# EAGLE library part PTA-08 (library con-phoenix-350)
PTA 1,5/ XX-3,5
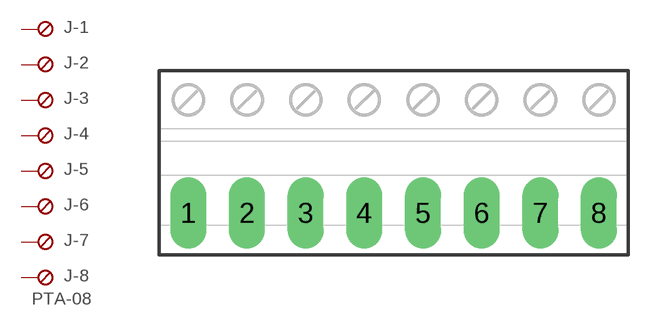
[diagram p7: symbol with the pads of PTA-08; footprint PTA-08]

Designator prefix J; gates -1=SKB -2=SKB -3=SKB -4=SKB -5=SKB -6=SKB -7=SKB -8=SKBU+V

## PTA-08  [PTA-08]
1  -1:S  pas
2  -2:S  pas
3  -3:S  pas
4  -4:S  pas
5  -5:S  pas
6  -6:S  pas
7  -7:S  pas
8  -8:S  pas

## Footprint PTA-08 (pad centres in mm)
PTA 1,5/ 8-3,5
drill 1.422 long: 1 -12.25,0; 2 -8.75,0; 3 -5.25,0; 4 -1.75,0; 5 1.75,0; 6 5.25,0; 7 8.75,0; 8 12.25,0